# Altium schematic symbol library PLMZM23601SILR.SchLib: 1 symbol
Pins are listed as number, name and electrical type; pins without a type are passive.

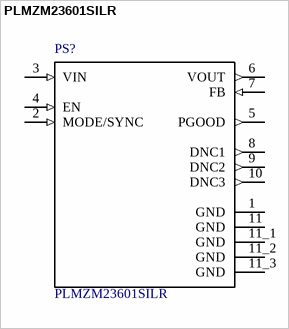
[diagram p0: symbol PLMZM23601SILR]

## PLMZM23601SILR
designator PS?
/ 4V to 36V, 1A Step-Down Converter Module With Integrated Inductor in 3x3.8x1.6mm Package 10-uSiP -40 to 125 /; MF: Texas Instruments; Package: None; Price: None; MP: PLMZM23601SILR; SnapEDA_Link: https://www.snapeda.com/parts/PLMZM23601SILR/Texas%20Instruments/view-part/2368412/?ref=snap; Availability: Unavailable; Value: *
footprint *CONV_PLMZM23601SILR_PLMZM23601SILR(Primary)
pins: 1 GND (power), 2 MODE/SYNC (in), 3 VIN (in), 4 EN (in), 5 PGOOD (out), 6 VOUT (out), 7 FB (in), 8 DNC1 (out), 9 DNC2 (out), 10 DNC3 (out), 11 GND (power), 11_1 GND (power), 11_2 GND (power), 11_3 GND (power)